# Altium footprint library Altium-RC.PcbLib: 36 footprints (part 2 of 3)
Each footprint in its own frame and in the unit in brackets; x right, y up, seen from the top. Pads: shape width x height; smd on the part's side, far side on the other; paste and mask are expansions set on the pad; w line width, h text height; cw(c..) or ccw(c..) is an arc to the next point about the centre after c.
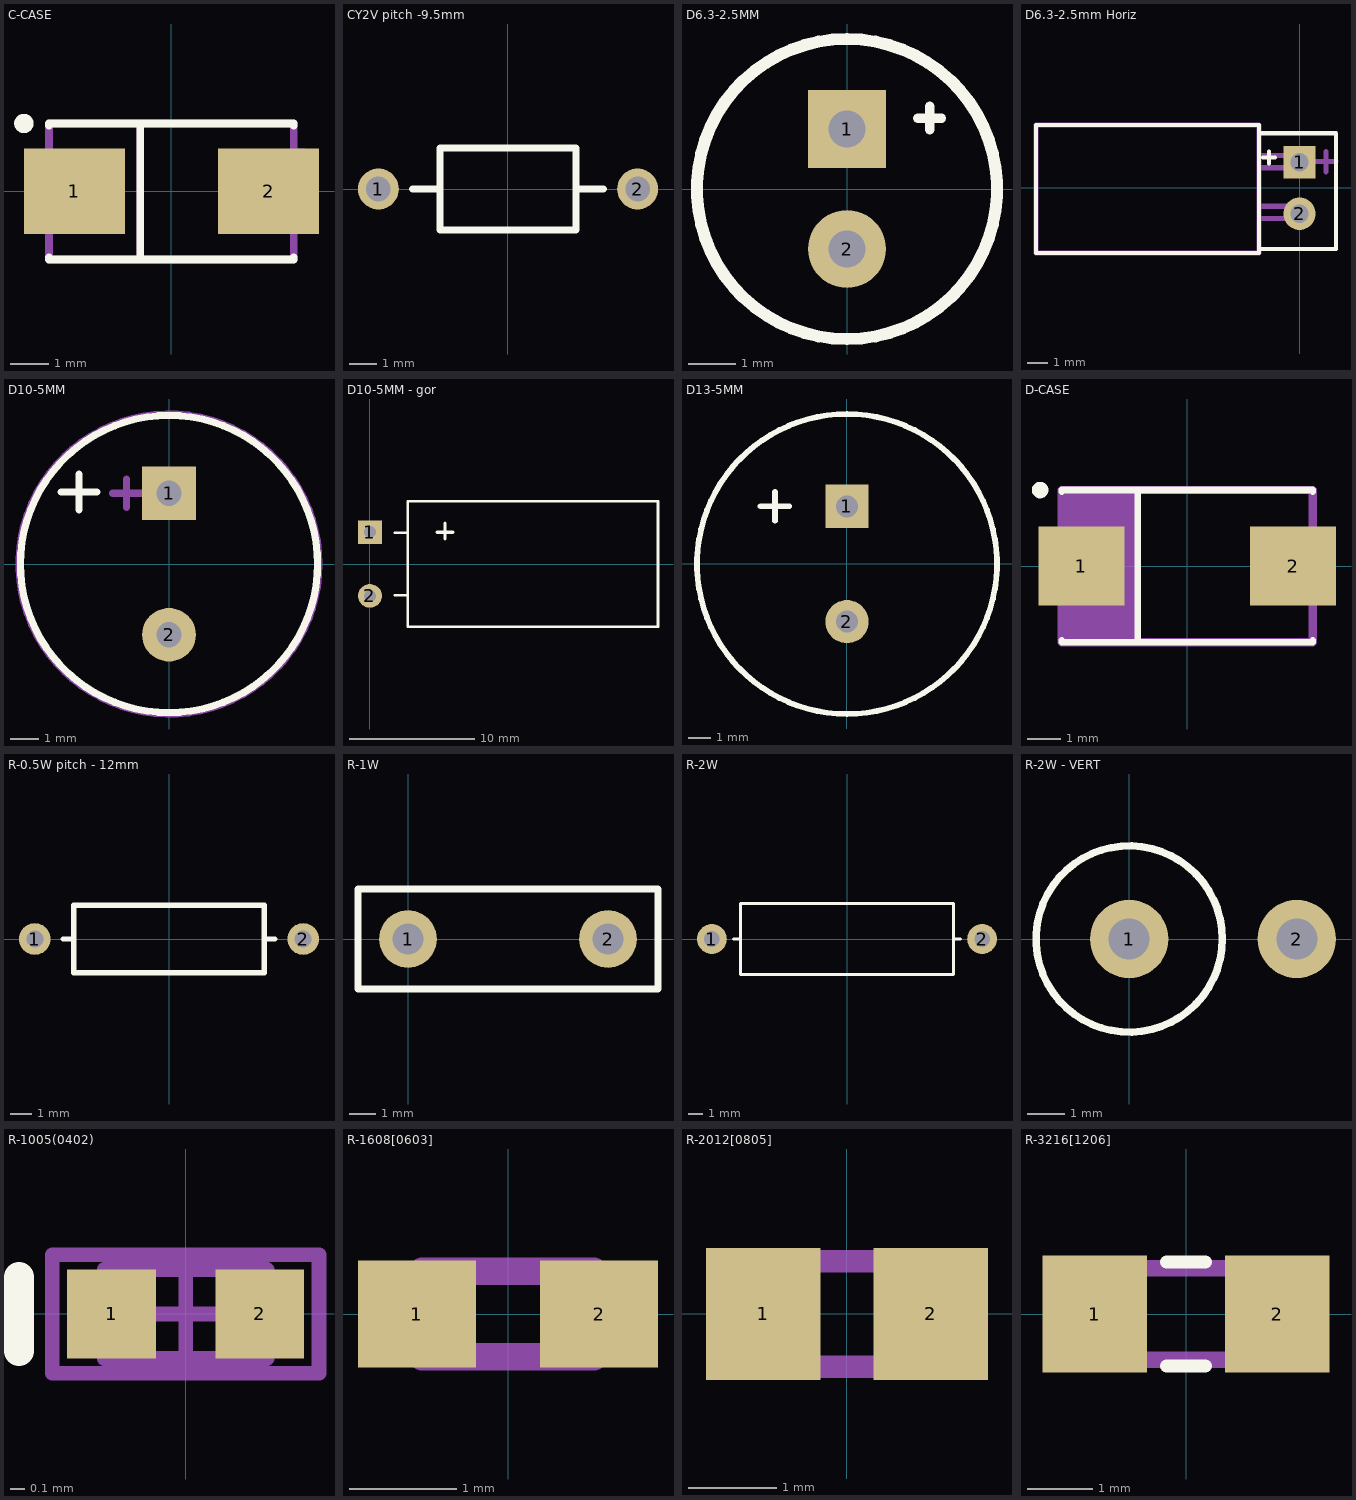
[diagram p1: the footprints below, top view; thin cyan lines are the x and y axes]

## C-CASE [mm]
height 2.8
pads (2):
  rect 2.6x2.2 smd: 1(-2.5,0) 2(2.5,0)
Top Overlay:
  circle w0.25: c-3.8,1.75 r0.125
  lines w0.2: -3.15,-1.7 -3.15,-1.75 3.15,-1.75 3.15,-1.7 ; -3.15,1.7 -3.15,1.75 3.15,1.75 3.15,1.7 ; -0.8,-1.75 -0.8,1.75
Mechanical 13:
  lines w0.2: -3.15,-1 -3.4,-1 -3.4,0.9 -3.15,0.9 ; -0.8,-1.75 -0.8,1.75 ; 3.15,-1 3.4,-1 3.4,1 3.15,1 ; -3.15,-1.75 3.15,-1.75 3.15,1.75 -3.15,1.75 -3.15,-1.75
  text ".Designator" at -3.3,2.6 h2
3D body: height 2.51, standoff 0, extent -3,-1.6 3,1.6

## CY2V pitch -9.5mm [mm]
pads (2):
  round 1.5 hole 0.9: 1(-4.75,0) 2(4.75,0)
Top Overlay:
  lines w0.254: -3.5,0 -2.54,0 ; 2.54,0 3.5,0 ; -2.5,-1.5 -2.5,1.5 2.5,1.5 2.5,-1.5 -2.5,-1.5

## D6.3-2.5MM [mil]
height 433.07
pads (2):
  rect 65x65 hole 31: 1(0,50)
  round 65 hole 31: 2(0,-50)
Top Overlay:
  lines w7.87: 59.06,59.06 78.74,59.06 ; 68.9,49.21 68.9,68.9
  lines w10: 0,-125 ccw(c0,0) 0,125 ccw(c0,0) 0,-125
3D body: height 433.07, standoff 0, extent -125.41,-125.41 125.41,125.41

## D6.3-2.5mm Horiz [mm]
pads (2):
  rect 1.6x1.6 hole 0.9: 1(0,1.27)
  round 1.6 hole 0.9: 2(0,-1.27)
Top Overlay:
  lines w0.2: -2,-3 1.8,-3 1.8,2.7 -2,2.7 ; -1.8,1.5 -1.2,1.5 ; -1.5,1.2 -1.5,1.8 ; -13,-3.2 -13,3.1 -2,3.1 -2,-3.2 -13,-3.2
Mechanical 13:
  lines w0.254: -2,-1.5 0,-1.5 ccw(c0,-1.2) 0,-0.9 -2,-0.9 ; -2,1 0,1 ccw(c0,1.3) 0,1.6 -2,1.6 ; 0.8,1.3 1.8,1.3 ; 1.3,0.8 1.3,1.8 ; -13,-3.2 -13,3.1 -2,3.1 -2,-3.2 -13,-3.2
  text ".Designator" at -13.025,4 h2
3D body: height 7.17, standoff 0.83, extent -13,-3.2 -2,3.125

## D10-5MM [mm]
height 20
pads (2):
  rect 1.9x1.9 hole 0.9: 1(0,2.5)
  round 1.9 hole 0.9: 2(0,-2.5)
Top Overlay:
  lines w0.254: -3.81,2.54 -2.54,2.54 ; -3.175,1.905 -3.175,3.175 ; 0,-5.25 ccw(c0,0) 0,5.25 ccw(c0,0) 0,-5.25
Mechanical 13:
  circle w0.254: c0,-2.5 r0.4
  circle w0.254: c0,2.5 r0.4
  circle w0.254: c0,0 r5.3
  lines w0.254: -2,2.5 -1,2.5 ; -1.5,2 -1.5,3
  text ".Designator" at -3.625,-0.4 h2
3D body: height 20, standoff 0, extent -5.262,-5.262 5.262,5.262

## D10-5MM - gor [mil]
height 787.4
pads (2):
  rect 75x75 hole 38: 1(0,100)
  round 75 hole 38: 2(0,-100)
Top Overlay:
  lines w7.87: 78.74,-98.43 118.11,-98.43 ; 78.74,98.43 118.11,98.43 ; 118.11,-196.85 118.11,196.85 905.51,196.85 905.51,-196.85 118.11,-196.85
  lines w10: 211.22,100 261.22,100 ; 236.22,78.74 236.22,128.74
3D body: height 392.15, standoff 0, extent 118.11,-196.85 905.51,196.07

## D13-5MM [mil]
height 984.25
pads (2):
  rect 75x75 hole 38: 1(0,100)
  round 75 hole 38: 2(0,-100)
Top Overlay:
  lines w10: -150,100 -100,100 ; -125,75 -125,125 ; 0,-260 ccw(c0,0) 0,260 ccw(c0,0) 0,-260
3D body: height 984.25, standoff 0, extent -260.43,-260.43 260.43,260.43

## D-CASE [mm]
height 2.8
pads (2):
  rect 2.6x2.4 smd: 1(-3.2,0) 2(3.2,0)
Top Overlay:
  circle w0.25: c-4.45,2.3 r0.125
  lines w0.2: -3.8,-2.25 -3.8,-2.3 3.8,-2.3 3.8,-2.25 ; -3.8,2.25 -3.8,2.3 3.8,2.3 3.8,2.25 ; -1.5,-2.3 -1.5,2.3
Mechanical 13:
  rectangle: -3.8,-2.3 -1.5,2.3
  lines w0.254: -3.8,-2.3 3.8,-2.3 3.8,2.3 -3.8,2.3 -3.8,-2.3
  text ".Designator" at -3.725,3.2 h2
3D body: height 2.8, standoff 0, extent -3.743,-2.159 3.75,2.159

## R-0.5W pitch - 12mm [mm]
pads (2):
  round 1.5 hole 0.8: 1(-6.35,0) 2(6.35,0)
Top Overlay:
  lines w0.254: -5,0 -4.5,0 ; 4.5,0 5,0 ; -4.5,-1.6 4.5,-1.6 4.5,1.6 -4.5,1.6 -4.5,-1.6

## R-1W [mm]
pads (2):
  round 2.2 hole 1.2: 1(0,0) 2(7.62,0)
Top Overlay:
  lines w0.254: -1.905,-1.905 -1.905,1.905 9.525,1.905 9.525,-1.905 -1.905,-1.905
3D body: height 0, standoff 0, extent -1.904,-1.904 9.524,1.904

## R-2W [mm]
pads (2):
  round 2.1 hole 1.1: 1(-9.525,0) 2(9.525,0)
Top Overlay:
  lines w0.2: -8,0 -7.5,0 ; 7.5,0 8,0 ; -7.5,-2.5 -7.5,2.5 7.5,2.5 7.5,-2.5 -7.5,-2.5

## R-2W - VERT [mm]
height 15
pads (2):
  round 2.1 hole 1.1: 1(0,0) 2(4.5,0)
Top Overlay:
  circle w0.2: c0,0 r2.5

## R-1005(0402) [mm] "Chip Resistor, Body 1.1x0.5mm, IPC High Density"
height 0.4
pads (2):
  rect 0.6x0.6 smd: 1(-0.5,0) 2(0.5,0)
Top Overlay:
  lines w0.2: -1.125,-0.25 -1.125,0.25
Mechanical 13:
  lines w0.1: -0.55,-0.3 -0.55,0.3 0.55,0.3 0.55,-0.3 -0.55,-0.3
Mechanical 15:
  lines w0.1: -0.3,0 0.3,0 ; 0,-0.3 0,0.3 ; -0.9,-0.4 -0.9,0.4 0.9,0.4 0.9,-0.4 -0.9,-0.4
3D body: height 0.27, standoff 0, extent -0.5,-0.251 0.5,0.251

## R-1608[0603] [mm]
height 0.55
pads (2):
  rect 1.1x1 smd: 1(-0.85,0) 2(0.85,0)
Mechanical 13:
  lines w0.254: -0.8,-0.4 0.8,-0.4 0.8,0.4 -0.8,0.4 -0.8,-0.4
  text ".Designator" at -1.025,1.2 h2
3D body: height 0.37, standoff 0, extent -0.8,-0.401 0.8,0.401

## R-2012[0805] [mm]
height 0.55
pads (2):
  rect 1.3x1.5 smd: 1(-0.95,0) 2(0.95,0)
Mechanical 13:
  lines w0.254: -1,-0.6 -1,0.6 1,0.6 1,-0.6 -1,-0.6
  text ".Designator" at -1.125,1.4 h2
3D body: height 0.47, standoff 0, extent -1,-0.626 1,0.626

## R-3216[1206] [mm]
height 0.55
pads (2):
  rect 1.6x1.8 smd: 1(-1.4,0) 2(1.4,0)
Top Overlay:
  lines w0.2: -0.3,-0.8 0.3,-0.8 ; -0.3,0.8 0.3,0.8
Mechanical 13:
  lines w0.254: -1.5,-0.7 -1.5,0.7 1.5,0.7 1.5,-0.7 -1.5,-0.7
  text ".Designator" at -1.925,1.7 h2
3D body: height 0.47, standoff 0, extent -1.55,-0.776 1.55,0.776